# Altium footprint library SW 12.PcbLib: 5 footprints
Each footprint in its own frame and in the unit in brackets; x right, y up, seen from the top. Pads: shape width x height; smd on the part's side, far side on the other; paste and mask are expansions set on the pad; w line width, h text height; cw(c..) or ccw(c..) is an arc to the next point about the centre after c.
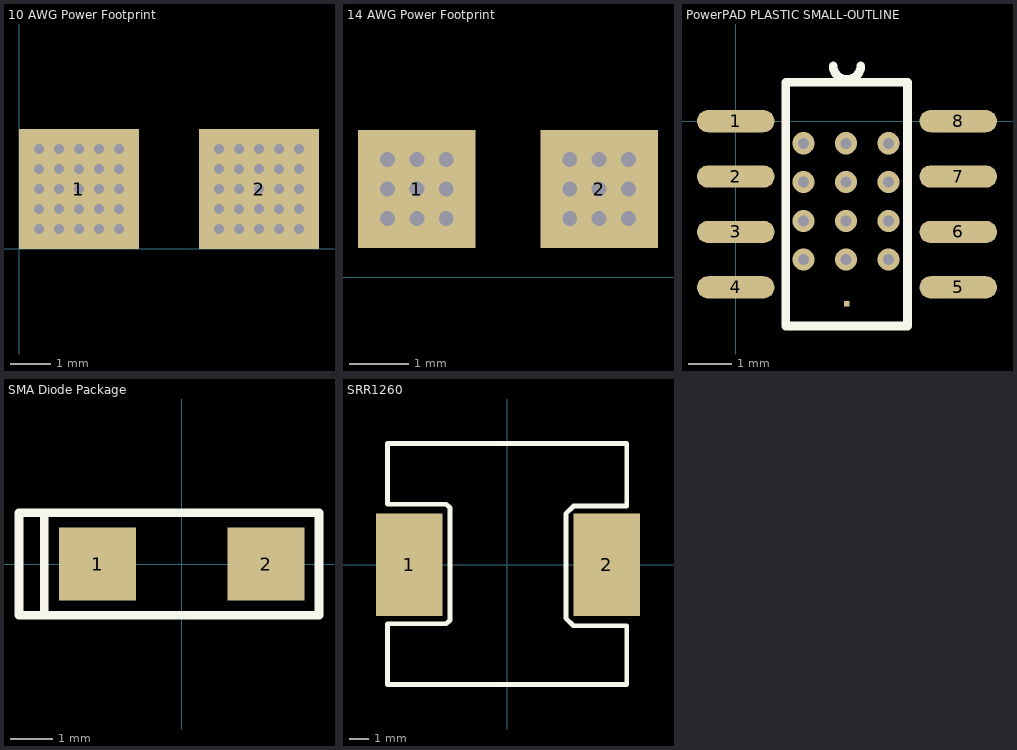
[diagram p0: the footprints below, top view; thin cyan lines are the x and y axes]

## 10 AWG Power Footprint [mm] "10 AWG Power Footprint"
pads (2):
  rect 3x3 all layers, no hole: 1(1.5,1.5) 2(6,1.5)
via 0.5,0.5 diameter 0.254 hole 0.254
via 1,0.5 diameter 0.254 hole 0.254
via 1.5,0.5 diameter 0.254 hole 0.254
via 2,0.5 diameter 0.254 hole 0.254
via 2.5,0.5 diameter 0.254 hole 0.254
via 0.5,1 diameter 0.254 hole 0.254
via 1,1 diameter 0.254 hole 0.254
via 1.5,1 diameter 0.254 hole 0.254
via 2,1 diameter 0.254 hole 0.254
via 2.5,1 diameter 0.254 hole 0.254
via 0.5,1.5 diameter 0.254 hole 0.254
via 1,1.5 diameter 0.254 hole 0.254
via 1.5,1.5 diameter 0.254 hole 0.254
via 2,1.5 diameter 0.254 hole 0.254
via 2.5,1.5 diameter 0.254 hole 0.254
via 0.5,2 diameter 0.254 hole 0.254
via 1,2 diameter 0.254 hole 0.254
via 1.5,2 diameter 0.254 hole 0.254
via 2,2 diameter 0.254 hole 0.254
via 2.5,2 diameter 0.254 hole 0.254
via 0.5,2.5 diameter 0.254 hole 0.254
via 1,2.5 diameter 0.254 hole 0.254
via 1.5,2.5 diameter 0.254 hole 0.254
via 2,2.5 diameter 0.254 hole 0.254
via 2.5,2.5 diameter 0.254 hole 0.254
via 5,0.5 diameter 0.254 hole 0.254
via 5.5,0.5 diameter 0.254 hole 0.254
via 6,0.5 diameter 0.254 hole 0.254
via 6.5,0.5 diameter 0.254 hole 0.254
via 7,0.5 diameter 0.254 hole 0.254
via 5,1 diameter 0.254 hole 0.254
via 5.5,1 diameter 0.254 hole 0.254
via 6,1 diameter 0.254 hole 0.254
via 6.5,1 diameter 0.254 hole 0.254
via 7,1 diameter 0.254 hole 0.254
via 5,1.5 diameter 0.254 hole 0.254
via 5.5,1.5 diameter 0.254 hole 0.254
via 6,1.5 diameter 0.254 hole 0.254
via 6.5,1.5 diameter 0.254 hole 0.254
via 7,1.5 diameter 0.254 hole 0.254
via 5,2 diameter 0.254 hole 0.254
via 5.5,2 diameter 0.254 hole 0.254
via 6,2 diameter 0.254 hole 0.254
via 6.5,2 diameter 0.254 hole 0.254
via 7,2 diameter 0.254 hole 0.254
via 7,2.5 diameter 0.254 hole 0.254
via 6.5,2.5 diameter 0.254 hole 0.254
via 6,2.5 diameter 0.254 hole 0.254
via 5.5,2.5 diameter 0.254 hole 0.254
via 5,2.5 diameter 0.254 hole 0.254

## 14 AWG Power Footprint [mm] "10 AWG Power Footprint"
pads (2):
  rect 2x2 all layers, no hole: 1(1.5,1.5) 2(4.6,1.5)
via 5.1,2 diameter 0.254 hole 0.254
via 4.6,2 diameter 0.254 hole 0.254
via 4.1,2 diameter 0.254 hole 0.254
via 5.1,1.5 diameter 0.254 hole 0.254
via 4.6,1.5 diameter 0.254 hole 0.254
via 4.1,1.5 diameter 0.254 hole 0.254
via 5.1,1 diameter 0.254 hole 0.254
via 4.6,1 diameter 0.254 hole 0.254
via 4.1,1 diameter 0.254 hole 0.254
via 2,2 diameter 0.254 hole 0.254
via 1.5,2 diameter 0.254 hole 0.254
via 1,2 diameter 0.254 hole 0.254
via 2,1.5 diameter 0.254 hole 0.254
via 1.5,1.5 diameter 0.254 hole 0.254
via 1,1.5 diameter 0.254 hole 0.254
via 2,1 diameter 0.254 hole 0.254
via 1.5,1 diameter 0.254 hole 0.254
via 1,1 diameter 0.254 hole 0.254

## PowerPAD PLASTIC SMALL-OUTLINE [mm]
pads (9):
  oval 1.778x0.51 smd: 1(0,0) 2(0,-1.27) 3(0,-2.54) 4(0,-3.81) 5(5.1,-3.81) 6(5.1,-2.54) 7(5.1,-1.27) 8(5.1,0)
  rect 0.127x0.127 smd: 9(2.54,-4.191)
via 1.549,-3.175 diameter 0.508 hole 0.254
via 2.527,-3.175 diameter 0.508 hole 0.254
via 3.505,-3.175 diameter 0.508 hole 0.254
via 1.549,-1.397 diameter 0.508 hole 0.254
via 2.527,-1.397 diameter 0.508 hole 0.254
via 3.505,-1.397 diameter 0.508 hole 0.254
via 3.505,-2.286 diameter 0.508 hole 0.254
via 2.527,-2.286 diameter 0.508 hole 0.254
via 1.549,-2.286 diameter 0.508 hole 0.254
via 1.549,-0.508 diameter 0.508 hole 0.254
via 2.527,-0.508 diameter 0.508 hole 0.254
via 3.505,-0.508 diameter 0.508 hole 0.254
Top Overlay:
  lines w0.2: 2.232,1.27 ccw(c2.55,1.27) 2.867,1.27 ; 2.613,0.889 3.937,0.889 3.937,-4.699 1.143,-4.699 1.143,0.889 3.175,0.889
Multi-Layer:
  rectangle: 1.27,-4.572 3.81,0.762
3D body: height 1.75, standoff 0.15, extent 0.508,-4.445 4.572,0.635

## SMA Diode Package [mm]
pads (2):
  rect 1.8x1.7 smd: 1(-1.965,0) 2(1.965,0)
Top Overlay:
  lines w0.2: -3.215,-1.2 -3.8,-1.2 -3.8,1.2 -3.215,1.2 ; -3.215,-1.2 -2.815,-1.2 3.2,-1.2 3.2,1.2 -2.815,1.2 -3.215,1.2 ; -3.215,-1.2 -3.215,0 -3.215,1.2
3D body: height 2.44, standoff 0.2, extent -2.6,-1.2 2.6,1.2

## SRR1260 [mm]
pads (2):
  rect 3.5x5.4 smd paste+0: 1(-5.15,0)
  rect 3.5x5.4 smd: 2(5.25,0)
Top Overlay:
  lines w0.254: -2.7,-6.3 -6.3,-6.3 -6.3,-3.1 -3.2,-3.1 -3,-2.9 -3,3 -3.2,3.2 -6.3,3.2 -6.3,6.4 -2.7,6.4 ; -2.8,-6.3 -2.8,-6.3 ; -2.8,-6.3 2.8,-6.3 ; -2.7,6.4 -2.7,6.4 ; -2.7,6.4 2.7,6.4 ; 2.7,6.4 2.7,6.4 ; 2.7,6.4 6.3,6.4 6.3,3.1 ; 2.8,-6.3 2.8,-6.3 ; 2.8,-6.3 6.3,-6.3 6.3,-3.2 3.5,-3.2 3.1,-2.8 3.1,2.7 3.5,3.1 6.3,3.1 ; 6.3,3.1 6.3,3.1
3D body: height 6.15, standoff 0.15, extent -6.3,-6.3 6.3,6.4